# EAGLE library part CD4046 (library LITTLEBITS140826)
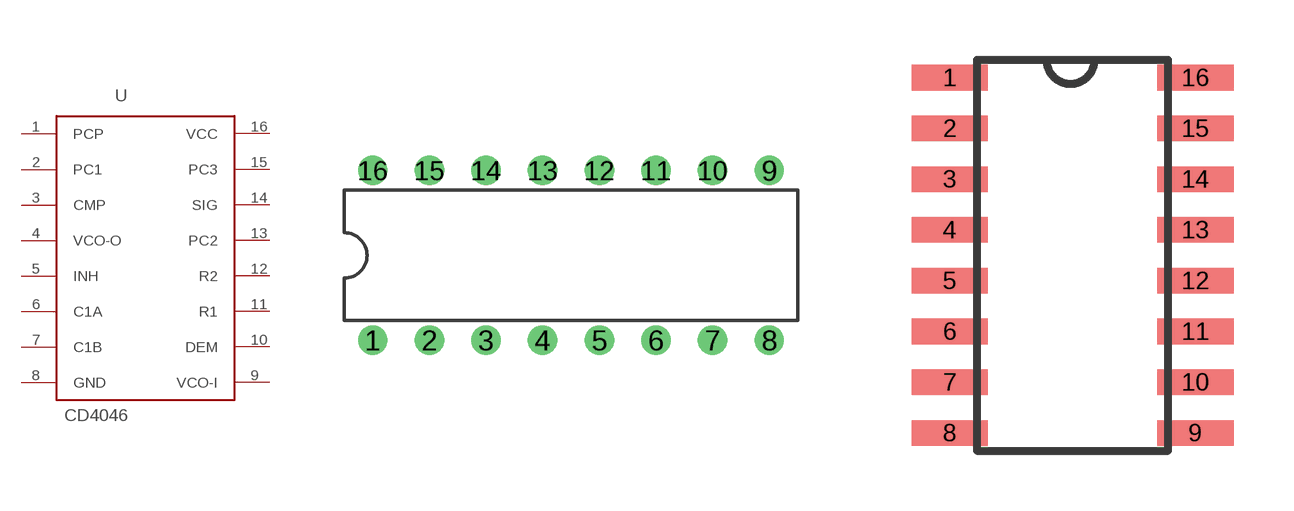
[diagram p65: symbol with the pads of DIL16; footprints DIL16, DMP16]

Designator prefix -

## CD4046DIP16  [DIL16]
1  PCP  pwr
2  PC1
3  CMP  pwr
4  VCO-O  pwr
5  INH
6  C1A
7  C1B
8  GND
9  VCO-I
10  DEM
11  R1
12  R2
13  PC2
14  SIG
15  PC3
16  VCC

## CD4046SM16  [DMP16]
Pads as for DIL16

## Footprint DIL16 (pad centres in mm)
Dual In Line Package
drill 0.813: 1 -8.89,-3.81; 2 -6.35,-3.81; 3 -3.81,-3.81; 4 -1.27,-3.81; 5 1.27,-3.81; 6 3.81,-3.81; 7 6.35,-3.81; 8 8.89,-3.81; 9 8.89,3.81; 10 6.35,3.81; 11 3.81,3.81; 12 1.27,3.81; 13 -1.27,3.81; 14 -3.81,3.81; 15 -6.35,3.81; 16 -8.89,3.81

## Footprint DMP16 (pad centres in mm)
smd 1.91 x 0.64: 1 -6.47,9.145; 2 -6.47,7.875; 3 -6.47,6.605; 4 -6.47,5.335; 5 -6.47,4.065; 6 -6.47,2.795; 7 -6.47,1.525; 8 -6.47,0.255; 9 -0.33,0.255; 10 -0.33,1.525; 11 -0.33,2.795; 12 -0.33,4.065; 13 -0.33,5.335; 14 -0.33,6.605; 15 -0.33,7.875; 16 -0.33,9.145